# Altium footprint library HANDS-FREEE-PcbLib-V1.10.PcbLib: 197 footprints (part 2 of 13)
Each footprint in its own frame and in the unit in brackets; x right, y up, seen from the top. Pads: shape width x height; smd on the part's side, far side on the other; paste and mask are expansions set on the pad; w line width, h text height; cw(c..) or ccw(c..) is an arc to the next point about the centre after c.
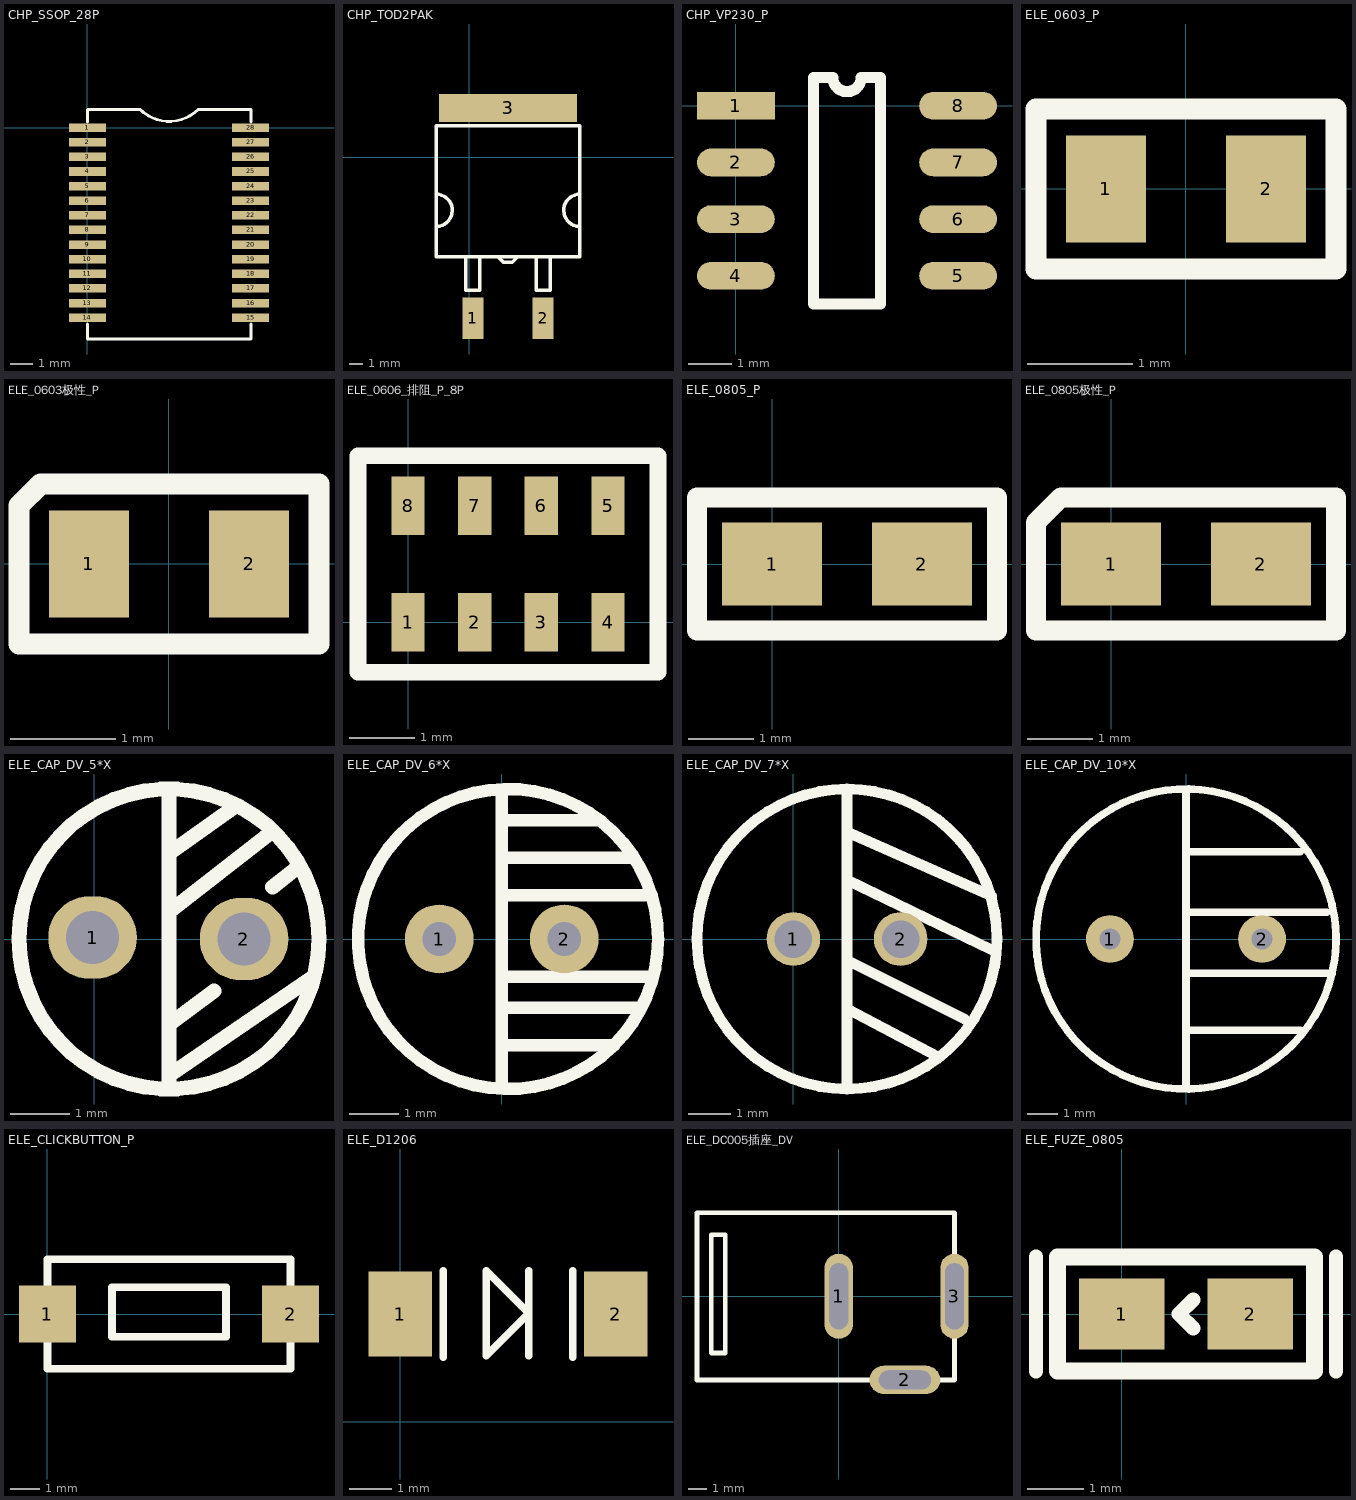
[diagram p1: the footprints below, top view; thin cyan lines are the x and y axes]

## CHP_SSOP_28P [mil]
height 62.99
pads (28):
  rect 65x15 smd: 1(0,0) 2(0,-25.59) 3(0,-51.18) 4(0,-76.77) 5(0,-102.36) 6(0,-127.95) 7(0,-153.54) 8(0,-179.13) 9(0,-204.72) 10(0,-230.31) 11(0,-255.91) 12(0,-281.5) 13(0,-307.09) 14(0,-332.68) 15(285.43,-332.68) 16(285.43,-307.09) 17(285.43,-281.5) 18(285.43,-255.91) 19(285.43,-230.31) 20(285.43,-204.72) 21(285.43,-179.13) 22(285.43,-153.54) 23(285.43,-127.95) 24(285.43,-102.36) 25(285.43,-76.77) 26(285.43,-51.18) 27(285.43,-25.59) 28(285.43,0)
Top Overlay:
  lines w5: 0,-344 0,-370.03 286,-370.03 286,-344 ; 0,10 0,32 92,32 ccw(c143,83) 194,32 286,32 286,10

## CHP_TOD2PAK [mil]
pads (3):
  rect 59.06x118.11 smd: 1(10,-460) 2(210,-460)
  rect 393.7x78.74 smd: 3(110,140)
Top Overlay:
  lines w10: -95,-105.93 cw(c-95,-152) -91.55,-197.94 ; -10,-285 -10,-380 30,-380 30,-285 ; 84,-287 97,-300 122,-300 136.5,-285.5 ; 190,-285 190,-380 230,-380 230,-285 ; 311.55,-197.94 cw(c315,-152) 315,-105.93 ; -95,-285 315,-285 315,90 -95,90 -95,-285

## CHP_VP230_P [mil]
pads (8):
  rect 70x25 smd: 1(0,0)
  oval 70x25 smd: 2(0,-51) 3(0,-102) 4(0,-153) 5(200,-153) 6(200,-102) 7(200,-51) 8(200,0)
Top Overlay:
  lines w10: 70,-178.5 130,-178.5 130,25.5 112.75,25.5 cw(c100,25.5) 87.25,25.5 70,25.5 70,-178.5

## ELE_0603_P [mil]
pads (2):
  rect 30x40 smd: 1(-30,0) 2(30,0)
Top Overlay:
  lines w7.87: 56.14,-30.04 56.14,30 -56.14,30 -56.14,-30 56.14,-30

## ELE_0603极性_P [mil]
pads (2):
  rect 30x40 smd: 1(-30,0) 2(30,0)
Top Overlay:
  lines w7.87: 56.14,-30.04 56.14,30 -48,30 -56.14,21.86 -56.14,-30 56.14,-30

## ELE_0606_排阻_P_8P [mil]
pads (8):
  rect 20x35 smd: 1(0,0) 2(40,0) 3(80,0) 4(120,0) 5(120,70) 6(80,70) 7(40,70) 8(0,70)
Top Overlay:
  lines w10: -30,-30 150,-30 150,100 -30,100 -30,-30

## ELE_0805_P [mil]
pads (2):
  rect 60x50 smd: 1(0,0) 2(90,0)
Top Overlay:
  lines w12: -45,-40 -45,40 135,40 135,-40 -45,-40

## ELE_0805极性_P [mil]
pads (2):
  rect 60x50 smd: 1(0,0) 2(90,0)
Top Overlay:
  lines w12: -45,-40 -45,25 -30,40 135,40 135,-40 -45,-40

## ELE_CAP_DV_5*X [mil]
pads (2):
  oval 59x55 hole 35.4: 1(-1,1) 2(100,0)
Top Overlay:
  circle w10: c50,0 r100
  lines w10: 50,-100 50,100 ; 50,-91 145,-26 ; 50,-57 79.96,-34.61 ; 50,18 118,71 ; 50,57 95,89 ; 119.11,34.65 136,48

## ELE_CAP_DV_6*X [mil]
pads (2):
  round 55 hole 27: 1(-50,0) 2(50,0)
Top Overlay:
  circle w10: c5,0 r120
  lines w10: 0,-115 0,115 ; 0,-85 90,-85 ; 0,-55 110,-55 ; 0,-30 120,-30 ; 0,35 120,35 ; 0,65 105,65 ; 0,95 75,95

## ELE_CAP_DV_7*X [mil]
pads (2):
  round 50 hole 35: 1(0,0) 2(100,0)
Top Overlay:
  circle w10: c50,0 r140
  lines w10: 50,-140 50,140 ; 50,-65 135,-110 ; 50,-20 160,-75 ; 50,55 185,-10 ; 50,100 185,40

## ELE_CAP_DV_10*X [mm]
pads (2):
  round 1.6 hole 0.7: 1(-2.54,0) 2(2.54,0)
Top Overlay:
  circle w0.254: c0,0 r5.011
  lines w0.254: 0,-4.826 0,4.953 ; 0,-3.048 3.81,-3.048 ; 0,-1.143 4.826,-1.143 ; 0,0.889 4.699,0.889 ; 0,2.921 3.81,2.921

## ELE_CLICKBUTTON_P [mil]
pads (2):
  rect 75x75 smd: 1(0,0) 2(320,0)
Top Overlay:
  lines w10: 0,0 0,72 ; 0,72 0,-72 320,-72 320,72 240,72 80,72 0,72 ; 85,-30 235,-30 235,35 85,35 85,-30

## ELE_D1206 [mm]
height 1.1
pads (2):
  rect 1.5x2 smd: 1(0,2.54) 2(5.08,2.54)
Top Overlay:
  lines w0.178: 1.016,1.524 1.016,3.556 ; 3.032,1.556 3.032,3.556 ; 4.064,1.524 4.064,3.556 ; 2.032,1.556 2.032,3.556 3.032,2.556 2.032,1.556

## ELE_DC005插座_DV [mil]
pads (3):
  oval 60x180 hole 40 slot 140 at 90 deg: 1(0,0) 3(245,0)
  oval 150x60 hole 40 slot 110 at 0 deg: 2(140,-177)
Top Overlay:
  lines w10: -300,-177 245,-177 245,177 55,177 -300,177 -300,-177 ; -270,-120 -270,130 -240,130 -240,-120 -270,-120

## ELE_FUZE_0805 [mil]
pads (2):
  rect 60x50 smd: 1(0,0) 2(90,0)
Top Overlay:
  lines w10: -60,-40 -60,40 ; 50,-10 40,0 50,10 ; 150,-40 150,40
  lines w12: -45,-40 -45,40 135,40 135,-40 -45,-40